# Altium footprint library D_Procesadores.PcbLib: 1 footprints
Each footprint in its own frame and in the unit in brackets; x right, y up, seen from the top. Pads: shape width x height; smd on the part's side, far side on the other; paste and mask are expansions set on the pad; w line width, h text height; cw(c..) or ccw(c..) is an arc to the next point about the centre after c.
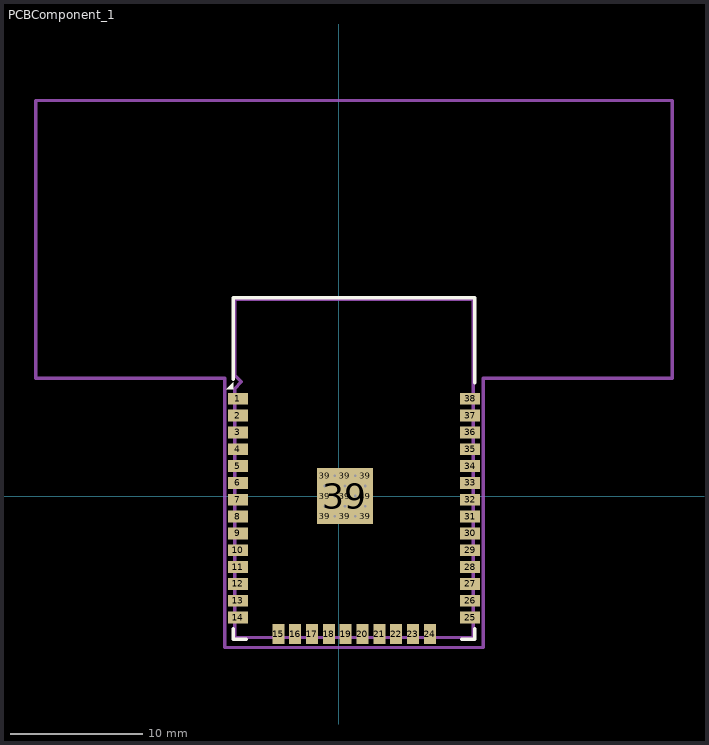
[diagram p0: the footprint, top view; thin cyan lines are the x and y axes]

## PCBComponent_1 [mm]
pads (60):
  rect 1.5x0.9 smd: 1(-7.607,7.361) 2(-7.607,6.091) 3(-7.607,4.821) 4(-7.607,3.551) 5(-7.607,2.281) 6(-7.607,1.011) 7(-7.607,-0.259) 8(-7.607,-1.529) 9(-7.607,-2.799) 10(-7.607,-4.069) 11(-7.607,-5.339) 12(-7.607,-6.609) 13(-7.607,-7.879) 14(-7.607,-9.149) 25(9.893,-9.149) 26(9.893,-7.879) 27(9.893,-6.609) 28(9.893,-5.339) 29(9.893,-4.069) 30(9.893,-2.799) 31(9.893,-1.529) 32(9.893,-0.259) 33(9.893,1.011) 34(9.893,2.281) 35(9.893,3.551) 36(9.893,4.821) 37(9.893,6.091) 38(9.893,7.361)
  rect 0.9x1.5 smd: 15(-4.567,-10.399) 16(-3.297,-10.399) 17(-2.027,-10.399) 18(-0.757,-10.399) 19(0.513,-10.399) 20(1.783,-10.399) 21(3.053,-10.399) 22(4.323,-10.399) 23(5.593,-10.399) 24(6.863,-10.399)
  rect 1.05x1.05 smd: 39(-1.062,-1.504) 39(-1.062,0.021) 39(-1.062,1.546) 39(0.463,-1.504) 39(0.463,0.021) 39(0.463,1.546) 39(1.988,-1.504) 39(1.988,0.021) 39(1.988,1.546)
  round 0.6 hole 0.2: 39(-1.062,-0.741) 39(-1.062,0.784) 39(-0.299,-1.504) 39(-0.299,0.021) 39(-0.299,1.546) 39(0.463,-0.741) 39(0.463,0.784) 39(1.225,-1.504) 39(1.225,0.021) 39(1.225,1.546) 39(1.988,-0.741) 39(1.988,0.784)
  rect 4.2x4.2 smd: 39(0.463,0.021)
Top Overlay:
  region: -7.982,8.086 -8.482,8.086 -7.982,8.586
  lines w0.254: -7.977,-9.989 -7.977,-10.769 -6.977,-10.769 ; -7.977,8.811 -7.977,14.971 10.263,14.971 10.263,8.556 ; 9.263,-10.769 10.263,-10.769 10.263,-9.989
Mechanical 4:
  lines w0.254: -22.857,8.911 -8.607,8.911 -8.607,-11.399 10.893,-11.399 10.893,8.911 25.143,8.911 25.143,29.851 -22.857,29.851 -22.857,8.911
Mechanical 6:
  lines w0.254: -7.857,-10.649 10.143,-10.649 10.143,14.851 -7.857,14.851 -7.857,9.131 -7.357,8.631 -7.857,8.131 -7.857,-10.649
  text "'.Designator'" at -0.296,-1.287 h1
Mechanical 7:
  text "Antenna" at 0.199,11.827 h1
  text "KEEP-OUT ZONE" at -2.592,21.022 h2
3D body "ESP32-WROOM-32.SLDPRT": height 3.1, standoff 0, extent -7.874,-10.641 10.126,14.859